# EAGLE library part HOLDER-SD-CARD (library Connector)
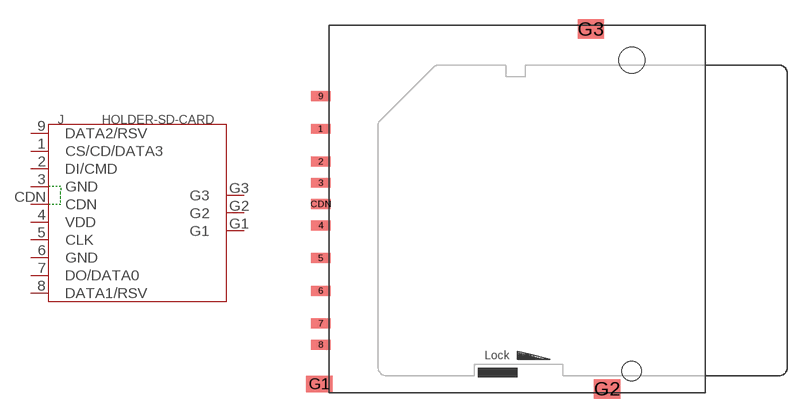
[diagram p24: symbol with the pads of 9P-SMD-W/O-RING; footprint 9P-SMD-W/O-RING]

Designator prefix J

## HOLDER-SD-CARD  [9P-SMD-W/O-RING]
1  CS/CD/DATA3
2  DI/CMD
3  GND
4  VDD
5  CLK
6  GND
7  DO/DATA0
8  DATA1/RSV
9  DATA2/RSV
CDN  CDN
G1  G1
G2  G2
G3  G3

## Footprint 9P-SMD-W/O-RING (pad centres in mm)
smd 1.524 x 0.762: 1 -0.635,6.223; 2 -0.635,3.683; 3 -0.635,2.032; 4 -0.635,-1.27; 5 -0.635,-3.81; 6 -0.635,-6.35; 7 -0.635,-8.89; 8 -0.635,-10.541; 9 -0.635,8.763; CDN -0.635,0.381
smd 2.032 x 1.27: G1 -0.762,-13.589
smd 2.032 x 1.524: G2 21.59,-13.97; G3 20.32,13.97
hole 2.032 at 23.495,11.557
hole 1.524 at 23.495,-12.573